# Altium integrated library TI Power Management Battery Management.IntLib: 949 symbols (part 17 of 62)
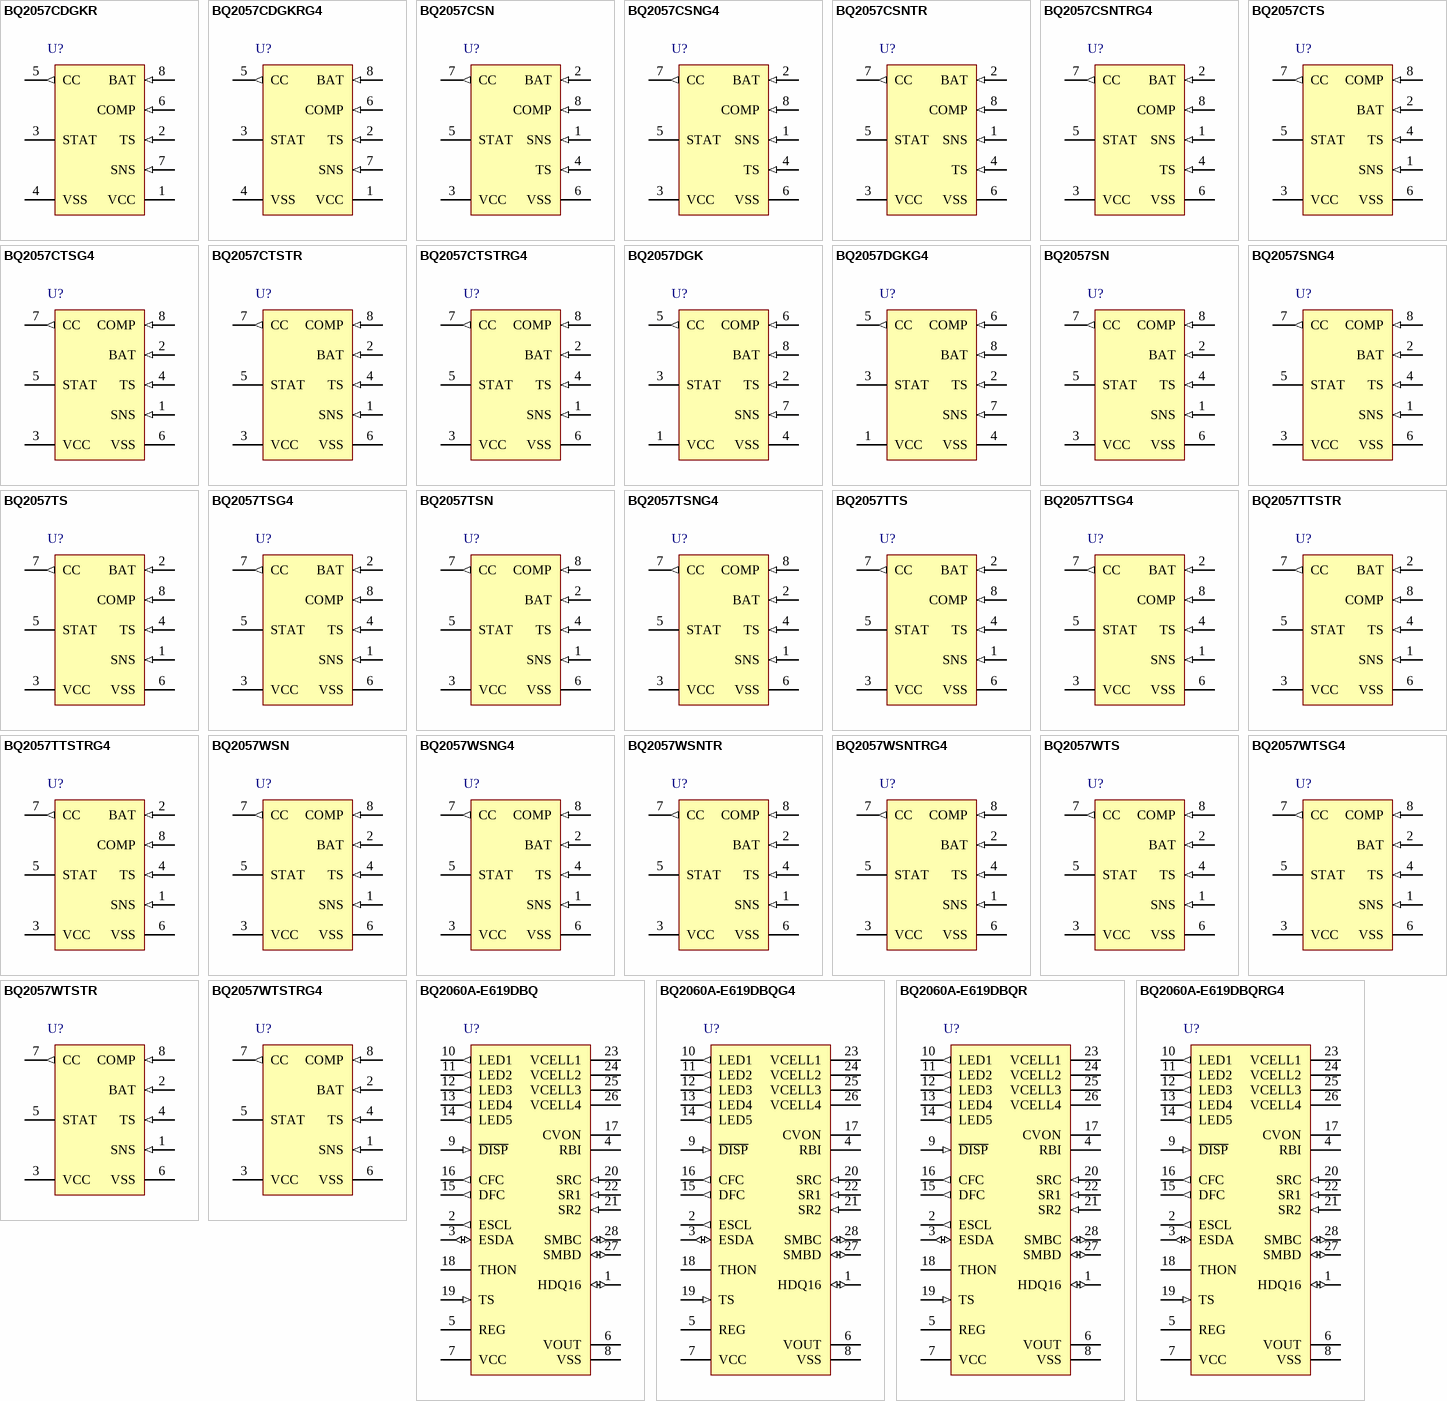
[diagram p50: symbols BQ2057CDGKR to BQ2060A-E619DBQRG4]

## BQ2060A-E619DBQG4
designator U?
Multi-Chemistry SBS 1.1 Compliant Gas Gauge with 5 LED Drivers, Additional Battery Mgmt Control, -20 to 70 degC, 28-pin SSOP (DBQ), Green (RoHS & no Sb/Br); PartNumber: BQ2060A-E619DBQG4; Manufacturer: Texas Instruments; Lead Acid: Y; Li-Polymer: N; SubFamily: Battery Fuel Gauge; DatasheetVersion: SLUS500D; PackageVersion: revH, Oct-2008; PackageReference: DBQ28; PackageDescription: 28-Pin Plastic Small Outline Package 0.635 mm Pitch; Supplier 1: Digi-Key; Supplier Part Number 1: BQ2060A-E619DBQG4-ND; Supplier 2: Farnell; Supplier Part Number 2: 1206833; Supplier 3: Newark; Supplier Part Number 3: 39P9770; Supplier 4: Newark; Supplier Part Number 4: 53K9227; Supplier 5: Mouser; Supplier Part Number 5: 595-BQ2060AE619DBQG4; Eco-Plan: Green (RoHS & no Sb/Br); Li-Ion: Y; NiCd: Y; NiMH: Y; Over Voltage Protection: N; Mounting Technology: Surface Mount; Code_JEDEC: MO-137-AF; ComponentLink1Description: Datasheet; ComponentLink1URL: http://www.ti.com/general/docs/lit/getliterature.tsp?genericPartNumber=BQ2060A&fileType=pdf
footprint DBQ28_N (SOP, 28-Leads, Body 9.9x3.9mm, Pitch 0.635mm, IPC Medium Density)
footprint DBQ28_L (SOP, 28-Leads, Body 9.9x3.9mm, Pitch 0.635mm, IPC High Density)
footprint DBQ28_M (SOP, 28-Leads, Body 9.9x3.9mm, Pitch 0.635mm, IPC Low Density)
pins: 1 HDQ16 (io) "Serial communication input/output. Open-drain bidirectional communications port", 2 ESCL (out) "Serial memory clock. Output to clock the data transfer between the bq2060A and the external nonvolatile configuration memory", 3 ESDA (io) "Serial memory data and address. Bidirectional pin used to transfer address and data to and from the bq2060A and the external nonvolatile configuration memory", 4 RBI (power) "Register backup input. Input that provides backup potential to the bq2060A registers during periods of low operating voltage.RBI accepts a storage capacitor or a battery input.", 5 REG (power) "Regulator output. Output to control an n-JFET for VCC regulation to the bq2060A from the battery potential", 6 VOUT (power) "EEPROM supply output. Output that supplies power to the external EEPROM configuration memory", 7 VCC (power) "Supply voltage input", 8 VSS (power) "Ground", 9 ~{DISP} (in) "Display control input. Input that controls the LED drivers LED1-LED5", 10 LED1 (out) "LED display segment output.Output that each may drive an external LED", 11 LED2 (out) "LED display segment output.Output that each may drive an external LED", 12 LED3 (out) "LED display segment output.Output that each may drive an external LED", 13 LED4 (out) "LED display segment output.Output that each may drive an external LED", 14 LED5 (out) "LED display segment output.Output that each may drive an external LED", 15 DFC (out) "Discharge FET control. Output to control the discharge FET in the Li-ion pack protection circuitry", 16 CFC (out) "Charge FET control output. Output to control the charge FET in the Li-ion pack protection circuitry", 17 CVON (hiz) "Cell voltage divider control output. Output control for external FETs to connect the cells to the external voltage dividers during cell voltage measurements", 18 THON (hiz) "Thermistor bias control. Output control for external FETs to connect the thermistor bias resistor during a temperature measurement", 19 TS (in) "Thermistor voltage input. Input connection for a thermistor to monitor temperature", 20 SRC (in) "Current sense input. Input to monitor instantaneous current", 21 SR2 (in) "Charge-flow sense resistor inputs. Input connections for a small value sense resistor to monitor the battery charge and discharge current flow", 22 SR1 (in) "Charge-flow sense resistor inputs. Input connections for a small value sense resistor to monitor the battery charge and discharge current flow", 23 VCELL1 (power) "Single-cell voltage input.Input that monitor the series element cell voltages", 24 VCELL2 (power) "Single-cell voltage input.Input that monitor the series element cell voltages", 25 VCELL3 (power) "Single-cell voltage input.Input that monitor the series element cell voltages", 26 VCELL4 (power) "Single-cell voltage input.Input that monitor the series element cell voltages", 27 SMBD (io) "SMBus data. Open-drain bidirectional pin used to transfer address and data to and from the bq2060A", 28 SMBC (io) "SMBus clock. Open-drain bidirectional pin used to clock the data transfer to and from the bq2060A"

## BQ2060A-E619DBQR
designator U?
Multi-Chemistry SBS 1.1 Compliant Gas Gauge with 5 LED Drivers, Additional Battery Mgmt Control, -20 to 70 degC, 28-pin SSOP (DBQ), Green (RoHS & no Sb/Br); PartNumber: BQ2060A-E619DBQR; Manufacturer: Texas Instruments; Lead Acid: Y; Li-Polymer: N; SubFamily: Battery Fuel Gauge; DatasheetVersion: SLUS500D; PackageVersion: revH, Oct-2008; PackageReference: DBQ28; PackageDescription: 28-Pin Plastic Small Outline Package 0.635 mm Pitch; Supplier 1: Digi-Key; Supplier Part Number 1: 296-25918-2-ND; Supplier 2: Digi-Key; Supplier Part Number 2: 296-25918-1-ND; Supplier 3: Digi-Key; Supplier Part Number 3: 296-25918-6-ND; Supplier 4: Newark; Supplier Part Number 4: 74C7605; Supplier 5: Mouser; Supplier Part Number 5: 595-BQ2060A-E619DBQR; Eco-Plan: Green (RoHS & no Sb/Br); Li-Ion: Y; NiCd: Y; NiMH: Y; Over Voltage Protection: N; Mounting Technology: Surface Mount; Code_JEDEC: MO-137-AF; ComponentLink1Description: Datasheet; ComponentLink1URL: http://www.ti.com/general/docs/lit/getliterature.tsp?genericPartNumber=BQ2060A&fileType=pdf
footprint DBQ28_N (SOP, 28-Leads, Body 9.9x3.9mm, Pitch 0.635mm, IPC Medium Density)
footprint DBQ28_L (SOP, 28-Leads, Body 9.9x3.9mm, Pitch 0.635mm, IPC High Density)
footprint DBQ28_M (SOP, 28-Leads, Body 9.9x3.9mm, Pitch 0.635mm, IPC Low Density)
pins: 1 HDQ16 (io) "Serial communication input/output. Open-drain bidirectional communications port", 2 ESCL (out) "Serial memory clock. Output to clock the data transfer between the bq2060A and the external nonvolatile configuration memory", 3 ESDA (io) "Serial memory data and address. Bidirectional pin used to transfer address and data to and from the bq2060A and the external nonvolatile configuration memory", 4 RBI (power) "Register backup input. Input that provides backup potential to the bq2060A registers during periods of low operating voltage.RBI accepts a storage capacitor or a battery input.", 5 REG (power) "Regulator output. Output to control an n-JFET for VCC regulation to the bq2060A from the battery potential", 6 VOUT (power) "EEPROM supply output. Output that supplies power to the external EEPROM configuration memory", 7 VCC (power) "Supply voltage input", 8 VSS (power) "Ground", 9 ~{DISP} (in) "Display control input. Input that controls the LED drivers LED1-LED5", 10 LED1 (out) "LED display segment output.Output that each may drive an external LED", 11 LED2 (out) "LED display segment output.Output that each may drive an external LED", 12 LED3 (out) "LED display segment output.Output that each may drive an external LED", 13 LED4 (out) "LED display segment output.Output that each may drive an external LED", 14 LED5 (out) "LED display segment output.Output that each may drive an external LED", 15 DFC (out) "Discharge FET control. Output to control the discharge FET in the Li-ion pack protection circuitry", 16 CFC (out) "Charge FET control output. Output to control the charge FET in the Li-ion pack protection circuitry", 17 CVON (hiz) "Cell voltage divider control output. Output control for external FETs to connect the cells to the external voltage dividers during cell voltage measurements", 18 THON (hiz) "Thermistor bias control. Output control for external FETs to connect the thermistor bias resistor during a temperature measurement", 19 TS (in) "Thermistor voltage input. Input connection for a thermistor to monitor temperature", 20 SRC (in) "Current sense input. Input to monitor instantaneous current", 21 SR2 (in) "Charge-flow sense resistor inputs. Input connections for a small value sense resistor to monitor the battery charge and discharge current flow", 22 SR1 (in) "Charge-flow sense resistor inputs. Input connections for a small value sense resistor to monitor the battery charge and discharge current flow", 23 VCELL1 (power) "Single-cell voltage input.Input that monitor the series element cell voltages", 24 VCELL2 (power) "Single-cell voltage input.Input that monitor the series element cell voltages", 25 VCELL3 (power) "Single-cell voltage input.Input that monitor the series element cell voltages", 26 VCELL4 (power) "Single-cell voltage input.Input that monitor the series element cell voltages", 27 SMBD (io) "SMBus data. Open-drain bidirectional pin used to transfer address and data to and from the bq2060A", 28 SMBC (io) "SMBus clock. Open-drain bidirectional pin used to clock the data transfer to and from the bq2060A"

## BQ2060A-E619DBQRG4
designator U?
Multi-Chemistry SBS 1.1 Compliant Gas Gauge with 5 LED Drivers, Additional Battery Mgmt Control, -20 to 70 degC, 28-pin SSOP (DBQ), Green (RoHS & no Sb/Br); PartNumber: BQ2060A-E619DBQRG4; Manufacturer: Texas Instruments; Lead Acid: Y; Li-Polymer: N; SubFamily: Battery Fuel Gauge; DatasheetVersion: SLUS500D; PackageVersion: revH, Oct-2008; PackageReference: DBQ28; PackageDescription: 28-Pin Plastic Small Outline Package 0.635 mm Pitch; Supplier 1: Digi-Key; Supplier Part Number 1: BQ2060A-E619DBQRG4-ND; Supplier 2: Newark; Supplier Part Number 2: 03K8980; Supplier 3: Mouser; Supplier Part Number 3: 595-BQ2060E619DBQRG4; Eco-Plan: Green (RoHS & no Sb/Br); Li-Ion: Y; NiCd: Y; NiMH: Y; Over Voltage Protection: N; Mounting Technology: Surface Mount; Code_JEDEC: MO-137-AF; ComponentLink1Description: Datasheet; ComponentLink1URL: http://www.ti.com/general/docs/lit/getliterature.tsp?genericPartNumber=BQ2060A&fileType=pdf
footprint DBQ28_N (SOP, 28-Leads, Body 9.9x3.9mm, Pitch 0.635mm, IPC Medium Density)
footprint DBQ28_L (SOP, 28-Leads, Body 9.9x3.9mm, Pitch 0.635mm, IPC High Density)
footprint DBQ28_M (SOP, 28-Leads, Body 9.9x3.9mm, Pitch 0.635mm, IPC Low Density)
pins: 1 HDQ16 (io) "Serial communication input/output. Open-drain bidirectional communications port", 2 ESCL (out) "Serial memory clock. Output to clock the data transfer between the bq2060A and the external nonvolatile configuration memory", 3 ESDA (io) "Serial memory data and address. Bidirectional pin used to transfer address and data to and from the bq2060A and the external nonvolatile configuration memory", 4 RBI (power) "Register backup input. Input that provides backup potential to the bq2060A registers during periods of low operating voltage.RBI accepts a storage capacitor or a battery input.", 5 REG (power) "Regulator output. Output to control an n-JFET for VCC regulation to the bq2060A from the battery potential", 6 VOUT (power) "EEPROM supply output. Output that supplies power to the external EEPROM configuration memory", 7 VCC (power) "Supply voltage input", 8 VSS (power) "Ground", 9 ~{DISP} (in) "Display control input. Input that controls the LED drivers LED1-LED5", 10 LED1 (out) "LED display segment output.Output that each may drive an external LED", 11 LED2 (out) "LED display segment output.Output that each may drive an external LED", 12 LED3 (out) "LED display segment output.Output that each may drive an external LED", 13 LED4 (out) "LED display segment output.Output that each may drive an external LED", 14 LED5 (out) "LED display segment output.Output that each may drive an external LED", 15 DFC (out) "Discharge FET control. Output to control the discharge FET in the Li-ion pack protection circuitry", 16 CFC (out) "Charge FET control output. Output to control the charge FET in the Li-ion pack protection circuitry", 17 CVON (hiz) "Cell voltage divider control output. Output control for external FETs to connect the cells to the external voltage dividers during cell voltage measurements", 18 THON (hiz) "Thermistor bias control. Output control for external FETs to connect the thermistor bias resistor during a temperature measurement", 19 TS (in) "Thermistor voltage input. Input connection for a thermistor to monitor temperature", 20 SRC (in) "Current sense input. Input to monitor instantaneous current", 21 SR2 (in) "Charge-flow sense resistor inputs. Input connections for a small value sense resistor to monitor the battery charge and discharge current flow", 22 SR1 (in) "Charge-flow sense resistor inputs. Input connections for a small value sense resistor to monitor the battery charge and discharge current flow", 23 VCELL1 (power) "Single-cell voltage input.Input that monitor the series element cell voltages", 24 VCELL2 (power) "Single-cell voltage input.Input that monitor the series element cell voltages", 25 VCELL3 (power) "Single-cell voltage input.Input that monitor the series element cell voltages", 26 VCELL4 (power) "Single-cell voltage input.Input that monitor the series element cell voltages", 27 SMBD (io) "SMBus data. Open-drain bidirectional pin used to transfer address and data to and from the bq2060A", 28 SMBC (io) "SMBus clock. Open-drain bidirectional pin used to clock the data transfer to and from the bq2060A"

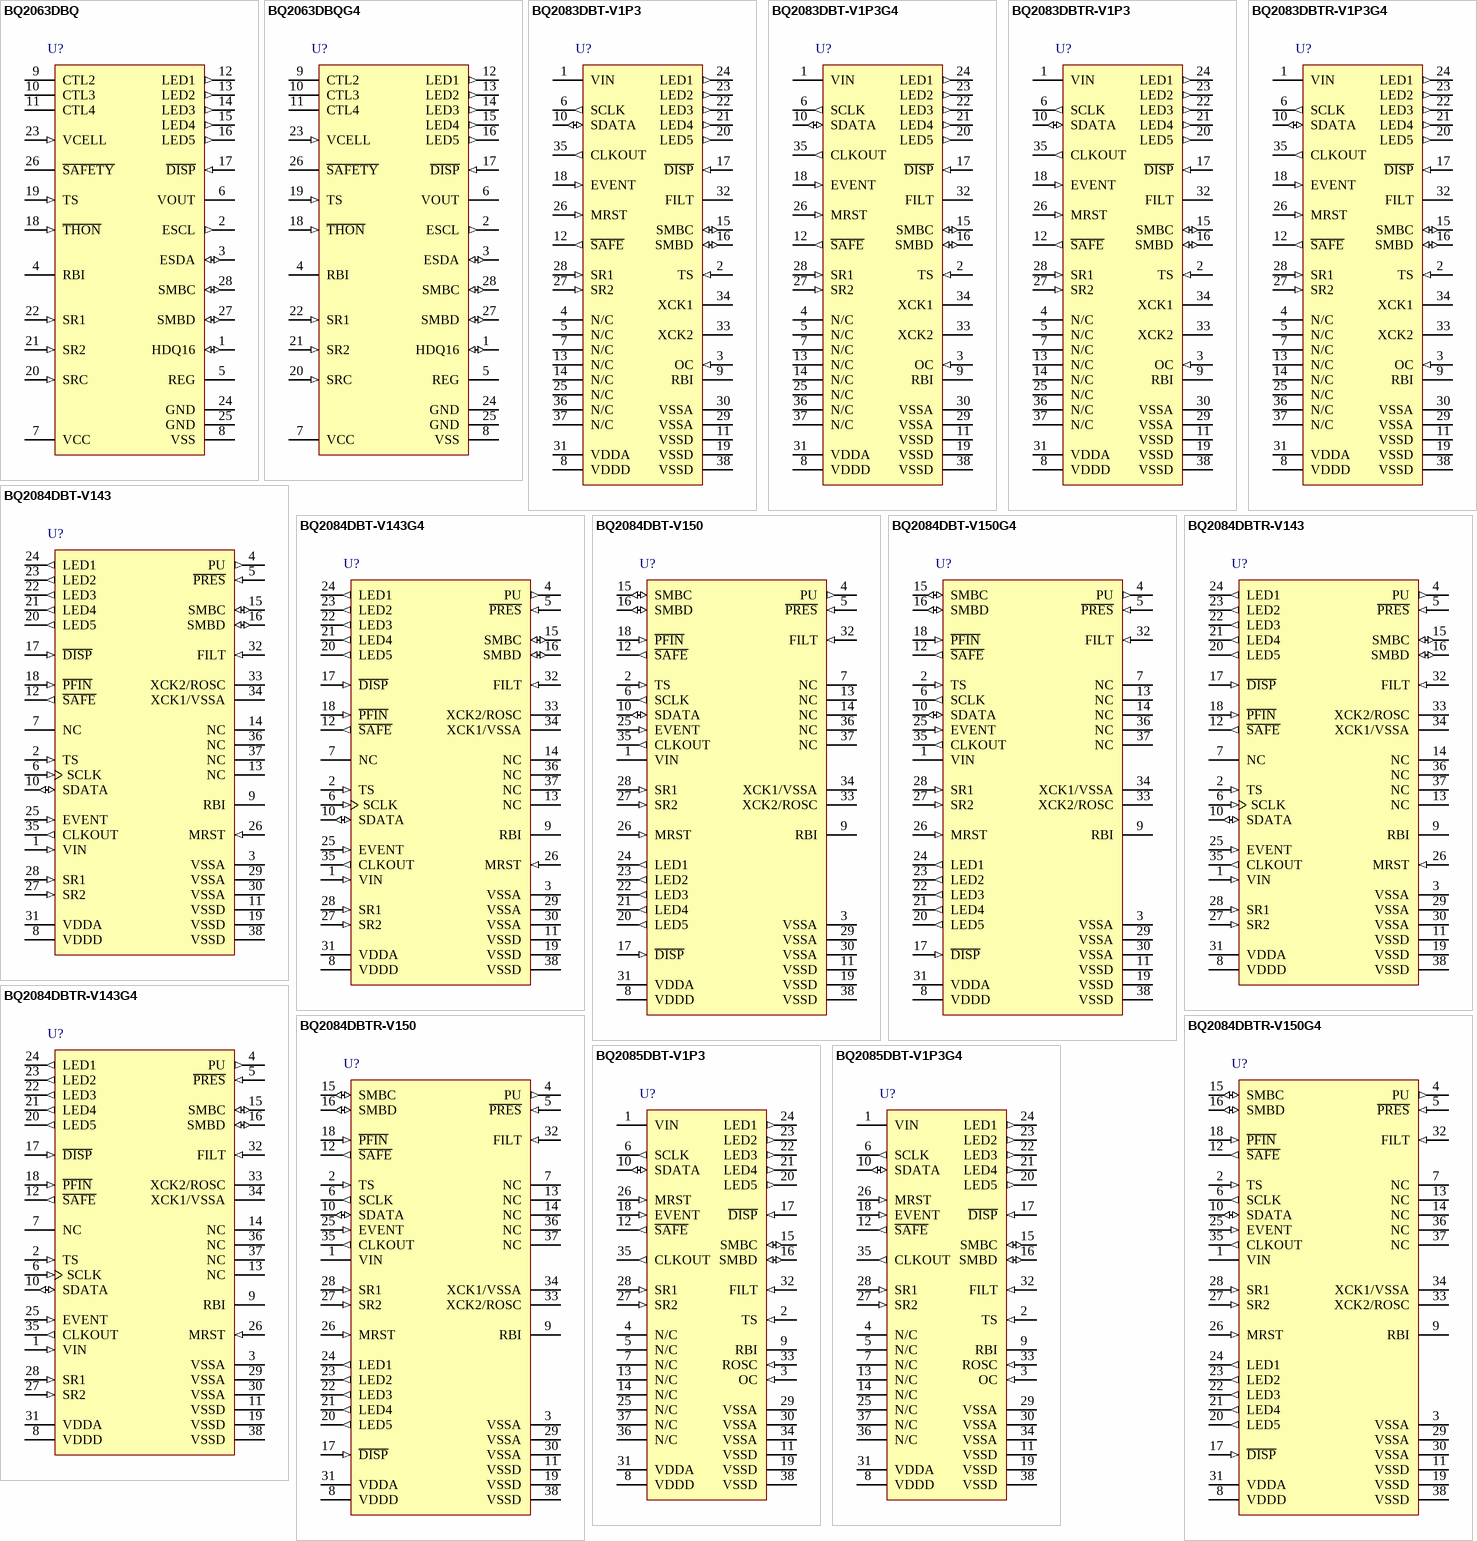
[diagram p9: symbols BQ2063DBQ to BQ2085DBT-V1P3G4]

## BQ2063DBQ
designator U?
Li-Ion SBS 1.1 Compliant Gas Gauge with Protector Interface, 0 to 70 degC, 28-pin SSOP/QSOP (DBQ), Green (RoHS & no Sb/Br); PartNumber: BQ2063DBQ; Manufacturer: Texas Instruments; Lead Acid: N; Li-Ion: Y; SubFamily: Battery Fuel Gauge; DatasheetVersion: SLUS468E; PackageVersion: revH, Oct-2008; PackageReference: DBQ28; PackageDescription: 28-Pin Plastic Small Outline Package 0.635 mm Pitch; Supplier 1: Digi-Key; Supplier Part Number 1: 296-12199-5-ND; Supplier 2: Newark; Supplier Part Number 2: 74C7612; Supplier 3: Mouser; Supplier Part Number 3: 595-BQ2063DBQ; Eco-Plan: Green (RoHS & no Sb/Br); Li-Polymer: N; NiCd: N; NiMH: N; Over Voltage Protection: N; Mounting Technology: Surface Mount; Code_JEDEC: MO-137-AF; ComponentLink1Description: Datasheet; ComponentLink1URL: http://www.ti.com/general/docs/lit/getliterature.tsp?genericPartNumber=BQ2063&fileType=pdf
footprint DBQ28_N (SOP, 28-Leads, Body 9.9x3.9mm, Pitch 0.635mm, IPC Medium Density)
footprint DBQ28_L (SOP, 28-Leads, Body 9.9x3.9mm, Pitch 0.635mm, IPC High Density)
footprint DBQ28_M (SOP, 28-Leads, Body 9.9x3.9mm, Pitch 0.635mm, IPC Low Density)
pins: 1 HDQ16 (io) "Serial communication open-drain bidirectional communications port", 2 ESCL (out) "Serial memory clock for data transfer between the bq2063 and the external nonvolatile configuration memory", 3 ESDA (io) "Bidirectional pin that transfers address and data to and from the bq2063 and the external nonvolatile configuration memory", 4 RBI (power) "Register backup that provides backup potential to the bq2063 registers during periods of low operating voltage. RBI accepts a storage capacitor or a battery input", 5 REG (power) "Regular output to control an n-JFET for Vcc regulation to the bq2063 from the battery potential", 6 VOUT (power) "VCC output that supplies power to the external EEPROM configuration memory", 7 VCC (power) "Supply voltage", 8 VSS (power) "Ground", 9 CTL2 (hiz) "3-state outputs to interface the S-8243 protection IC", 10 CTL3 (hiz) "3-state outputs to interface the S-8243 protection IC", 11 CTL4 (hiz) "3-state outputs to interface the S-8243 protection IC", 12 LED1 (out) "LED display segments that each may drive an external LED", 13 LED2 (out) "LED display segments that each may drive an external LED", 14 LED3 (out) "LED display segments that each may drive an external LED", 15 LED4 (out) "LED display segments that each may drive an external LED", 16 LED5 (out) "LED display segments that each may drive an external LED", 17 ~{DISP} (in) "Display control for the LED drivers LED1-LED5", 18 ~{THON} (in) "Control for external FETs to connect the thermistor bias resistor during a temperature measurement", 19 TS (in) "Thermistor voltage input connection to monitor temperature", 20 SRC (in) "Current-sense voltage to monitor instantaneous current", 21 SR2 (in) "Connections for a small-value sense resistor to monitor the battery charge- and discharge-current flow", 22 SR1 (in) "Connections for a small-value sense resistor to monitor the battery charge- and discharge-current flow", 23 VCELL (in) "Single-cell voltage input that monitors the series element cell voltages from the S-8243", 24 GND (power) "Must be tied externally to VSS", 25 GND (power) "Must be tied externally to VSS", 26 ~{SAFETY} (oc) "Open-drain output for an additional level of safety protection (e.g., fuse blow)", 27 SMBD (io) "SMBus data open-drain bidirectional pin used to transfer address and data to and from the bq2063", 28 SMBC (io) "SMBus clock open-drain bidirectional pin used to clock the data transfer to and from the bq2063"

## BQ2063DBQG4
designator U?
Li-Ion SBS 1.1 Compliant Gas Gauge with Protector Interface, 0 to 70 degC, 28-pin SSOP/QSOP (DBQ), Green (RoHS & no Sb/Br); PartNumber: BQ2063DBQG4; Manufacturer: Texas Instruments; Lead Acid: N; Li-Ion: Y; SubFamily: Battery Fuel Gauge; DatasheetVersion: SLUS468E; PackageVersion: revH, Oct-2008; PackageReference: DBQ28; PackageDescription: 28-Pin Plastic Small Outline Package 0.635 mm Pitch; Supplier 1: Digi-Key; Supplier Part Number 1: BQ2063DBQG4-ND; Supplier 2: Newark; Supplier Part Number 2: 99K1806; Supplier 3: Mouser; Supplier Part Number 3: 595-BQ2063DBQG4; Eco-Plan: Green (RoHS & no Sb/Br); Li-Polymer: N; NiCd: N; NiMH: N; Over Voltage Protection: N; Mounting Technology: Surface Mount; Code_JEDEC: MO-137-AF; ComponentLink1Description: Datasheet; ComponentLink1URL: http://www.ti.com/general/docs/lit/getliterature.tsp?genericPartNumber=BQ2063&fileType=pdf
footprint DBQ28_N (SOP, 28-Leads, Body 9.9x3.9mm, Pitch 0.635mm, IPC Medium Density)
footprint DBQ28_L (SOP, 28-Leads, Body 9.9x3.9mm, Pitch 0.635mm, IPC High Density)
footprint DBQ28_M (SOP, 28-Leads, Body 9.9x3.9mm, Pitch 0.635mm, IPC Low Density)
pins: 1 HDQ16 (io) "Serial communication open-drain bidirectional communications port", 2 ESCL (out) "Serial memory clock for data transfer between the bq2063 and the external nonvolatile configuration memory", 3 ESDA (io) "Bidirectional pin that transfers address and data to and from the bq2063 and the external nonvolatile configuration memory", 4 RBI (power) "Register backup that provides backup potential to the bq2063 registers during periods of low operating voltage. RBI accepts a storage capacitor or a battery input", 5 REG (power) "Regular output to control an n-JFET for Vcc regulation to the bq2063 from the battery potential", 6 VOUT (power) "VCC output that supplies power to the external EEPROM configuration memory", 7 VCC (power) "Supply voltage", 8 VSS (power) "Ground", 9 CTL2 (hiz) "3-state outputs to interface the S-8243 protection IC", 10 CTL3 (hiz) "3-state outputs to interface the S-8243 protection IC", 11 CTL4 (hiz) "3-state outputs to interface the S-8243 protection IC", 12 LED1 (out) "LED display segments that each may drive an external LED", 13 LED2 (out) "LED display segments that each may drive an external LED", 14 LED3 (out) "LED display segments that each may drive an external LED", 15 LED4 (out) "LED display segments that each may drive an external LED", 16 LED5 (out) "LED display segments that each may drive an external LED", 17 ~{DISP} (in) "Display control for the LED drivers LED1-LED5", 18 ~{THON} (in) "Control for external FETs to connect the thermistor bias resistor during a temperature measurement", 19 TS (in) "Thermistor voltage input connection to monitor temperature", 20 SRC (in) "Current-sense voltage to monitor instantaneous current", 21 SR2 (in) "Connections for a small-value sense resistor to monitor the battery charge- and discharge-current flow", 22 SR1 (in) "Connections for a small-value sense resistor to monitor the battery charge- and discharge-current flow", 23 VCELL (in) "Single-cell voltage input that monitors the series element cell voltages from the S-8243", 24 GND (power) "Must be tied externally to VSS", 25 GND (power) "Must be tied externally to VSS", 26 ~{SAFETY} (oc) "Open-drain output for an additional level of safety protection (e.g., fuse blow)", 27 SMBD (io) "SMBus data open-drain bidirectional pin used to transfer address and data to and from the bq2063", 28 SMBC (io) "SMBus clock open-drain bidirectional pin used to clock the data transfer to and from the bq2063"

## BQ2083DBT-V1P3
designator U?
SBS-Compliant Gas Gauge for Use with bq29311, -20 to 85 degC, 38-pin TSSOP (DBT), Green (RoHS & no Sb/Br); PartNumber: BQ2083DBT-V1P3; Manufacturer: Texas Instruments; Lead Acid: N; SubFamily: Battery Fuel Gauge; DatasheetVersion: SLVS508; PackageVersion: revI, Mar-2011; PackageReference: DBT38; PackageDescription: 38-Pin Plastic Small Outline 0.5 mm Pitch; Supplier 1: Digi-Key; Supplier Part Number 1: 296-17237-ND; Supplier 2: Newark; Supplier Part Number 2: 10J9012; Supplier 3: Mouser; Supplier Part Number 3: 595-BQ2083DBT-V1P3; Eco-Plan: Green (RoHS & no Sb/Br); Li-Ion: N; Li-Polymer: N; NiCd: N; NiMH: N; Over Voltage Protection: N; Mounting Technology: Surface Mount; Code_JEDEC: MO-153; ComponentLink1Description: Datasheet; ComponentLink1URL: http://www.ti.com/general/docs/lit/getliterature.tsp?genericPartNumber=BQ2083-V1P3&fileType=pdf
footprint DBT38_N (TSSOP, 38-Leads, Body 9.7x4.4mm, Pitch 0.5mm, IPC Medium Density)
footprint DBT38_L (TSSOP, 38-Leads, Body 9.7x4.4mm, Pitch 0.5mm, IPC High Density)
footprint DBT38_M (TSSOP, 38-Leads, Body 9.7x4.4mm, Pitch 0.5mm, IPC Low Density)
pins: 1 VIN (power) "Single cell voltage input from the bq29311", 2 TS (in) "Thermistor voltage input connection to monitor temperature", 3 OC (in) "Analog input for auto ADC offset compensation; should be connected to VSSA", 4 N/C "No connection", 5 N/C "No connection", 6 SCLK (out) "Communication clock to the bq29311", 7 N/C "No connection", 8 VDDD (power) "Positive supply for digital circuitry and I/O pins", 9 RBI (power) "Register backup that provides backup potential to the bq2083-V1P3 data registers during periods of low operating voltage. RBI accepts a storage capacitor or a battery input.", 10 SDATA (io) "Data transfer to and from bq29311", 11 VSSD (power) "Negative supply for digital circuitry", 12 ~{SAFE} (out) "Output for additional level of safety protection; e.g., fuse blow.", 13 N/C "No connection", 14 N/C "No connection", 15 SMBC (io) "SMBus clock open-drain bidirectional pin used to clock the data transfer to and from the bq2083-V1P3", 16 SMBD (io) "SMBus data open-drain bidirectional pin used to transfer address and data to and from the bq2083-V1P3", 17 ~{DISP} (in) "Display control for the LED drivers LED1 through LED5", 18 EVENT (in) "Input from bq29311 XALERT output", 19 VSSD (power) "Negative supply for digital circuitry", 20 LED5 (out) "LED display segments that each may drive an external LED", 21 LED4 (out) "LED display segments that each may drive an external LED", 22 LED3 (out) "LED display segments that each may drive an external LED", 23 LED2 (out) "LED display segments that each may drive an external LED", 24 LED1 (out) "LED display segments that each may drive an external LED", 25 N/C "No connection", 26 MRST (in) "Master reset input that forces the device into reset when held high", 27 SR2 (in) "Connections for a small-value sense resistor to monitor the battery charge- and discharge-current flow", 28 SR1 (in) "Connections for a small-value sense resistor to monitor the battery charge- and discharge-current flow", 29 VSSA (power) "Negative supply for analog circuitry", 30 VSSA (power) "Negative supply for analog circuitry", 31 VDDA (power) "Positive supply for analog circuitry", 32 FILT "Analog input connected to the external PLL filter", 33 XCK2 "32.768 kHz crystal oscillator output pin", 34 XCK1 "32.768 kHz crystal oscillator input pin", 35 CLKOUT (out) "32.768-kHz output to the bq29311", 36 N/C "No connection", 37 N/C "No connection", 38 VSSD (power) "Negative supply for digital circuitry"

## BQ2083DBT-V1P3G4
designator U?
SBS-Compliant Gas Gauge for Use with bq29311, -20 to 85 degC, 38-pin TSSOP (DBT), Green (RoHS & no Sb/Br); PartNumber: BQ2083DBT-V1P3G4; Manufacturer: Texas Instruments; Lead Acid: N; SubFamily: Battery Fuel Gauge; DatasheetVersion: SLVS508; PackageVersion: revI, Mar-2011; PackageReference: DBT38; PackageDescription: 38-Pin Plastic Small Outline 0.5 mm Pitch; Supplier 1: Digi-Key; Supplier Part Number 1: BQ2083DBT-V1P3G4-ND; Supplier 2: Newark; Supplier Part Number 2: 67K7899; Supplier 3: Mouser; Supplier Part Number 3: 595-BQ2083DBT-V1P3G4; Eco-Plan: Green (RoHS & no Sb/Br); Li-Ion: N; Li-Polymer: N; NiCd: N; NiMH: N; Over Voltage Protection: N; Mounting Technology: Surface Mount; Code_JEDEC: MO-153; ComponentLink1Description: Datasheet; ComponentLink1URL: http://www.ti.com/general/docs/lit/getliterature.tsp?genericPartNumber=BQ2083-V1P3&fileType=pdf
footprint DBT38_N (TSSOP, 38-Leads, Body 9.7x4.4mm, Pitch 0.5mm, IPC Medium Density)
footprint DBT38_L (TSSOP, 38-Leads, Body 9.7x4.4mm, Pitch 0.5mm, IPC High Density)
footprint DBT38_M (TSSOP, 38-Leads, Body 9.7x4.4mm, Pitch 0.5mm, IPC Low Density)
pins: 1 VIN (power) "Single cell voltage input from the bq29311", 2 TS (in) "Thermistor voltage input connection to monitor temperature", 3 OC (in) "Analog input for auto ADC offset compensation; should be connected to VSSA", 4 N/C "No connection", 5 N/C "No connection", 6 SCLK (out) "Communication clock to the bq29311", 7 N/C "No connection", 8 VDDD (power) "Positive supply for digital circuitry and I/O pins", 9 RBI (power) "Register backup that provides backup potential to the bq2083-V1P3 data registers during periods of low operating voltage. RBI accepts a storage capacitor or a battery input.", 10 SDATA (io) "Data transfer to and from bq29311", 11 VSSD (power) "Negative supply for digital circuitry", 12 ~{SAFE} (out) "Output for additional level of safety protection; e.g., fuse blow.", 13 N/C "No connection", 14 N/C "No connection", 15 SMBC (io) "SMBus clock open-drain bidirectional pin used to clock the data transfer to and from the bq2083-V1P3", 16 SMBD (io) "SMBus data open-drain bidirectional pin used to transfer address and data to and from the bq2083-V1P3", 17 ~{DISP} (in) "Display control for the LED drivers LED1 through LED5", 18 EVENT (in) "Input from bq29311 XALERT output", 19 VSSD (power) "Negative supply for digital circuitry", 20 LED5 (out) "LED display segments that each may drive an external LED", 21 LED4 (out) "LED display segments that each may drive an external LED", 22 LED3 (out) "LED display segments that each may drive an external LED", 23 LED2 (out) "LED display segments that each may drive an external LED", 24 LED1 (out) "LED display segments that each may drive an external LED", 25 N/C "No connection", 26 MRST (in) "Master reset input that forces the device into reset when held high", 27 SR2 (in) "Connections for a small-value sense resistor to monitor the battery charge- and discharge-current flow", 28 SR1 (in) "Connections for a small-value sense resistor to monitor the battery charge- and discharge-current flow", 29 VSSA (power) "Negative supply for analog circuitry", 30 VSSA (power) "Negative supply for analog circuitry", 31 VDDA (power) "Positive supply for analog circuitry", 32 FILT "Analog input connected to the external PLL filter", 33 XCK2 "32.768 kHz crystal oscillator output pin", 34 XCK1 "32.768 kHz crystal oscillator input pin", 35 CLKOUT (out) "32.768-kHz output to the bq29311", 36 N/C "No connection", 37 N/C "No connection", 38 VSSD (power) "Negative supply for digital circuitry"

## BQ2083DBTR-V1P3
designator U?
SBS-Compliant Gas Gauge for Use with bq29311, -20 to 85 degC, 38-pin TSSOP (DBT), Green (RoHS & no Sb/Br); PartNumber: BQ2083DBTR-V1P3; Manufacturer: Texas Instruments; Lead Acid: N; SubFamily: Battery Fuel Gauge; DatasheetVersion: SLVS508; PackageVersion: revI, Mar-2011; PackageReference: DBT38; PackageDescription: 38-Pin Plastic Small Outline 0.5 mm Pitch; Supplier 1: Digi-Key; Supplier Part Number 1: BQ2083DBTR-V1P3-ND; Supplier 2: Newark; Supplier Part Number 2: 10J9013; Supplier 3: Mouser; Supplier Part Number 3: 595-BQ2083DBTR-V1P3; Eco-Plan: Green (RoHS & no Sb/Br); Li-Ion: N; Li-Polymer: N; NiCd: N; NiMH: N; Over Voltage Protection: N; Mounting Technology: Surface Mount; Code_JEDEC: MO-153; ComponentLink1Description: Datasheet; ComponentLink1URL: http://www.ti.com/general/docs/lit/getliterature.tsp?genericPartNumber=BQ2083-V1P3&fileType=pdf
footprint DBT38_N (TSSOP, 38-Leads, Body 9.7x4.4mm, Pitch 0.5mm, IPC Medium Density)
footprint DBT38_L (TSSOP, 38-Leads, Body 9.7x4.4mm, Pitch 0.5mm, IPC High Density)
footprint DBT38_M (TSSOP, 38-Leads, Body 9.7x4.4mm, Pitch 0.5mm, IPC Low Density)
pins: 1 VIN (power) "Single cell voltage input from the bq29311", 2 TS (in) "Thermistor voltage input connection to monitor temperature", 3 OC (in) "Analog input for auto ADC offset compensation; should be connected to VSSA", 4 N/C "No connection", 5 N/C "No connection", 6 SCLK (out) "Communication clock to the bq29311", 7 N/C "No connection", 8 VDDD (power) "Positive supply for digital circuitry and I/O pins", 9 RBI (power) "Register backup that provides backup potential to the bq2083-V1P3 data registers during periods of low operating voltage. RBI accepts a storage capacitor or a battery input.", 10 SDATA (io) "Data transfer to and from bq29311", 11 VSSD (power) "Negative supply for digital circuitry", 12 ~{SAFE} (out) "Output for additional level of safety protection; e.g., fuse blow.", 13 N/C "No connection", 14 N/C "No connection", 15 SMBC (io) "SMBus clock open-drain bidirectional pin used to clock the data transfer to and from the bq2083-V1P3", 16 SMBD (io) "SMBus data open-drain bidirectional pin used to transfer address and data to and from the bq2083-V1P3", 17 ~{DISP} (in) "Display control for the LED drivers LED1 through LED5", 18 EVENT (in) "Input from bq29311 XALERT output", 19 VSSD (power) "Negative supply for digital circuitry", 20 LED5 (out) "LED display segments that each may drive an external LED", 21 LED4 (out) "LED display segments that each may drive an external LED", 22 LED3 (out) "LED display segments that each may drive an external LED", 23 LED2 (out) "LED display segments that each may drive an external LED", 24 LED1 (out) "LED display segments that each may drive an external LED", 25 N/C "No connection", 26 MRST (in) "Master reset input that forces the device into reset when held high", 27 SR2 (in) "Connections for a small-value sense resistor to monitor the battery charge- and discharge-current flow", 28 SR1 (in) "Connections for a small-value sense resistor to monitor the battery charge- and discharge-current flow", 29 VSSA (power) "Negative supply for analog circuitry", 30 VSSA (power) "Negative supply for analog circuitry", 31 VDDA (power) "Positive supply for analog circuitry", 32 FILT "Analog input connected to the external PLL filter", 33 XCK2 "32.768 kHz crystal oscillator output pin", 34 XCK1 "32.768 kHz crystal oscillator input pin", 35 CLKOUT (out) "32.768-kHz output to the bq29311", 36 N/C "No connection", 37 N/C "No connection", 38 VSSD (power) "Negative supply for digital circuitry"

## BQ2083DBTR-V1P3G4
designator U?
SBS-Compliant Gas Gauge for Use with bq29311, -20 to 85 degC, 38-pin TSSOP (DBT), Green (RoHS & no Sb/Br); PartNumber: BQ2083DBTR-V1P3G4; Manufacturer: Texas Instruments; Lead Acid: N; SubFamily: Battery Fuel Gauge; DatasheetVersion: SLVS508; PackageVersion: revI, Mar-2011; PackageReference: DBT38; PackageDescription: 38-Pin Plastic Small Outline 0.5 mm Pitch; Supplier 1: Digi-Key; Supplier Part Number 1: BQ2083DBTR-V1P3G4-ND; Supplier 2: Newark; Supplier Part Number 2: 53K9231; Supplier 3: Mouser; Supplier Part Number 3: 595-BQ2083DBTRV1P3G4; Eco-Plan: Green (RoHS & no Sb/Br); Li-Ion: N; Li-Polymer: N; NiCd: N; NiMH: N; Over Voltage Protection: N; Mounting Technology: Surface Mount; Code_JEDEC: MO-153; ComponentLink1Description: Datasheet; ComponentLink1URL: http://www.ti.com/general/docs/lit/getliterature.tsp?genericPartNumber=BQ2083-V1P3&fileType=pdf
footprint DBT38_N (TSSOP, 38-Leads, Body 9.7x4.4mm, Pitch 0.5mm, IPC Medium Density)
footprint DBT38_L (TSSOP, 38-Leads, Body 9.7x4.4mm, Pitch 0.5mm, IPC High Density)
footprint DBT38_M (TSSOP, 38-Leads, Body 9.7x4.4mm, Pitch 0.5mm, IPC Low Density)
pins: 1 VIN (power) "Single cell voltage input from the bq29311", 2 TS (in) "Thermistor voltage input connection to monitor temperature", 3 OC (in) "Analog input for auto ADC offset compensation; should be connected to VSSA", 4 N/C "No connection", 5 N/C "No connection", 6 SCLK (out) "Communication clock to the bq29311", 7 N/C "No connection", 8 VDDD (power) "Positive supply for digital circuitry and I/O pins", 9 RBI (power) "Register backup that provides backup potential to the bq2083-V1P3 data registers during periods of low operating voltage. RBI accepts a storage capacitor or a battery input.", 10 SDATA (io) "Data transfer to and from bq29311", 11 VSSD (power) "Negative supply for digital circuitry", 12 ~{SAFE} (out) "Output for additional level of safety protection; e.g., fuse blow.", 13 N/C "No connection", 14 N/C "No connection", 15 SMBC (io) "SMBus clock open-drain bidirectional pin used to clock the data transfer to and from the bq2083-V1P3", 16 SMBD (io) "SMBus data open-drain bidirectional pin used to transfer address and data to and from the bq2083-V1P3", 17 ~{DISP} (in) "Display control for the LED drivers LED1 through LED5", 18 EVENT (in) "Input from bq29311 XALERT output", 19 VSSD (power) "Negative supply for digital circuitry", 20 LED5 (out) "LED display segments that each may drive an external LED", 21 LED4 (out) "LED display segments that each may drive an external LED", 22 LED3 (out) "LED display segments that each may drive an external LED", 23 LED2 (out) "LED display segments that each may drive an external LED", 24 LED1 (out) "LED display segments that each may drive an external LED", 25 N/C "No connection", 26 MRST (in) "Master reset input that forces the device into reset when held high", 27 SR2 (in) "Connections for a small-value sense resistor to monitor the battery charge- and discharge-current flow", 28 SR1 (in) "Connections for a small-value sense resistor to monitor the battery charge- and discharge-current flow", 29 VSSA (power) "Negative supply for analog circuitry", 30 VSSA (power) "Negative supply for analog circuitry", 31 VDDA (power) "Positive supply for analog circuitry", 32 FILT "Analog input connected to the external PLL filter", 33 XCK2 "32.768 kHz crystal oscillator output pin", 34 XCK1 "32.768 kHz crystal oscillator input pin", 35 CLKOUT (out) "32.768-kHz output to the bq29311", 36 N/C "No connection", 37 N/C "No connection", 38 VSSD (power) "Negative supply for digital circuitry"

## BQ2084DBT-V143
designator U?
SBS v1.1 Compliant Gas Gauge for use with the BQ29312A, 38-pin TSSOP (DBT), Green (RoHS & no Sb/Br); PartNumber: BQ2084DBT-V143; Manufacturer: Texas Instruments; Lead Acid: N; Li-Ion: Y; SubFamily: Battery Fuel Gauge; DatasheetVersion: SLUS732; PackageVersion: revI, Mar-2011; PackageReference: DBT38; PackageDescription: 38-Pin Plastic Small Outline 0.5 mm Pitch; Supplier 1: Digi-Key; Supplier Part Number 1: 296-32833-5-ND; Supplier 2: Farnell; Supplier Part Number 2: 1647882; Supplier 3: Newark; Supplier Part Number 3: 21M9446; Supplier 4: Mouser; Supplier Part Number 4: 595-BQ2084DBT-V143; Eco-Plan: Green (RoHS & no Sb/Br); Li-Polymer: N; NiCd: N; NiMH: N; Over Voltage Protection: N; Mounting Technology: Surface Mount; Code_JEDEC: MO-153; ComponentLink1Description: Datasheet; ComponentLink1URL: http://www.ti.com/general/docs/lit/getliterature.tsp?genericPartNumber=BQ2084-V143&fileType=pdf
footprint DBT38_N (TSSOP, 38-Leads, Body 9.7x4.4mm, Pitch 0.5mm, IPC Medium Density)
footprint DBT38_L (TSSOP, 38-Leads, Body 9.7x4.4mm, Pitch 0.5mm, IPC High Density)
footprint DBT38_M (TSSOP, 38-Leads, Body 9.7x4.4mm, Pitch 0.5mm, IPC Low Density)
pins: 1 VIN (in) "Single-cell voltage input from the bq29312.", 2 TS (in) "Thermistor voltage input connection to monitor temperature.", 3 VSSA (power) "Negative supply for analog circuitry.", 4 PU (out) "Output to pull up the P\R\E\S\ pin for detection.", 5 ~{PRES} (in) "Active low input to sense system insertion.", 6 SCLK (in) "Communication clock to the bq29312.", 7 NC "No connection.", 8 VDDD (power) "Positive supply for digital circuitry and I/O pins.", 9 RBI (power) "Register backup that provides backup potential to the bq2084-V143 data registers during periods of low operating voltage. RBI accepts a storage capacitor or a battery input.", 10 SDATA (io) "Data transfer to and from bq29312.", 11 VSSD (power) "Negative supply for digital circuitry.", 12 ~{SAFE} (out) "Active low output for additional level of safety protection; e.g., fuse blow.", 13 NC "No connection.", 14 NC "No connection.", 15 SMBC (io) "SMBus clock open-drain bidirectional pin used to clock the data transfer to and from the bq2084-V143.", 16 SMBD (io) "SMBus data open-drain bidirectional pin used to transfer address and data to and from the bq2084-V143.", 17 ~{DISP} (in) "Display control for the LED drivers LED1 through LED5.", 18 ~{PFIN} (in) "Active low input to detect secondary protector output status.", 19 VSSD (power) "Negative supply for digital circuitry.", 20 LED5 (out) "LED display segments that each may drive an external LED.", 21 LED4 (out) "LED display segments that each may drive an external LED.", 22 LED3 (out) "LED display segments that each may drive an external LED.", 23 LED2 (out) "LED display segments that each may drive an external LED.", 24 LED1 (out) "LED display segments that each may drive an external LED.", 25 EVENT (in) "Input from bq29312 XALERT output.", 26 MRST (in) "Master reset input that forces the device into reset when held high.", 27 SR2 (in) "Connections for a small-value sense resistor to monitor the battery charge- and discharge-current flow.", 28 SR1 (in) "Connections for a small-value sense resistor to monitor the battery charge- and discharge-current flow.", 29 VSSA (power) "Negative supply for analog circuitry.", 30 VSSA (power) "Negative supply for analog circuitry.", 31 VDDA (power) "Positive supply for analog circuitry.", 32 FILT (in) "Analog input connected to the external PLL filter.", 33 XCK2/ROSC "32.768-kHz crystal oscillator output pin or connected to a 100-k ohm, 50 ppm or better resistor if the internal oscillator is used.", 34 XCK1/VSSA "32.768-kHz crystal oscillator input pin or connected to VSSA if the internal oscillator is used.", 35 CLKOUT (out) "32.768-kHz output to the bq29312.", 36 NC "No connection.", 37 NC "No connection.", 38 VSSD (power) "Negative supply for digital circuitry."

## BQ2084DBT-V143G4
designator U?
SBS v1.1 Compliant Gas Gauge for use with the BQ29312A, 38-pin TSSOP (DBT), Green (RoHS & no Sb/Br); PartNumber: BQ2084DBT-V143G4; Manufacturer: Texas Instruments; Lead Acid: N; Li-Ion: Y; SubFamily: Battery Fuel Gauge; DatasheetVersion: SLUS732; PackageVersion: revI, Mar-2011; PackageReference: DBT38; PackageDescription: 38-Pin Plastic Small Outline 0.5 mm Pitch; Supplier 1: Digi-Key; Supplier Part Number 1: BQ2084DBT-V143G4-ND; Supplier 2: Newark; Supplier Part Number 2: 27M2177; Supplier 3: Mouser; Supplier Part Number 3: 595-BQ2084DBT-V143G4; Eco-Plan: Green (RoHS & no Sb/Br); Li-Polymer: N; NiCd: N; NiMH: N; Over Voltage Protection: N; Mounting Technology: Surface Mount; Code_JEDEC: MO-153; ComponentLink1Description: Datasheet; ComponentLink1URL: http://www.ti.com/general/docs/lit/getliterature.tsp?genericPartNumber=BQ2084-V143&fileType=pdf
footprint DBT38_N (TSSOP, 38-Leads, Body 9.7x4.4mm, Pitch 0.5mm, IPC Medium Density)
footprint DBT38_L (TSSOP, 38-Leads, Body 9.7x4.4mm, Pitch 0.5mm, IPC High Density)
footprint DBT38_M (TSSOP, 38-Leads, Body 9.7x4.4mm, Pitch 0.5mm, IPC Low Density)
pins: 1 VIN (in) "Single-cell voltage input from the bq29312.", 2 TS (in) "Thermistor voltage input connection to monitor temperature.", 3 VSSA (power) "Negative supply for analog circuitry.", 4 PU (out) "Output to pull up the P\R\E\S\ pin for detection.", 5 ~{PRES} (in) "Active low input to sense system insertion.", 6 SCLK (in) "Communication clock to the bq29312.", 7 NC "No connection.", 8 VDDD (power) "Positive supply for digital circuitry and I/O pins.", 9 RBI (power) "Register backup that provides backup potential to the bq2084-V143 data registers during periods of low operating voltage. RBI accepts a storage capacitor or a battery input.", 10 SDATA (io) "Data transfer to and from bq29312.", 11 VSSD (power) "Negative supply for digital circuitry.", 12 ~{SAFE} (out) "Active low output for additional level of safety protection; e.g., fuse blow.", 13 NC "No connection.", 14 NC "No connection.", 15 SMBC (io) "SMBus clock open-drain bidirectional pin used to clock the data transfer to and from the bq2084-V143.", 16 SMBD (io) "SMBus data open-drain bidirectional pin used to transfer address and data to and from the bq2084-V143.", 17 ~{DISP} (in) "Display control for the LED drivers LED1 through LED5.", 18 ~{PFIN} (in) "Active low input to detect secondary protector output status.", 19 VSSD (power) "Negative supply for digital circuitry.", 20 LED5 (out) "LED display segments that each may drive an external LED.", 21 LED4 (out) "LED display segments that each may drive an external LED.", 22 LED3 (out) "LED display segments that each may drive an external LED.", 23 LED2 (out) "LED display segments that each may drive an external LED.", 24 LED1 (out) "LED display segments that each may drive an external LED.", 25 EVENT (in) "Input from bq29312 XALERT output.", 26 MRST (in) "Master reset input that forces the device into reset when held high.", 27 SR2 (in) "Connections for a small-value sense resistor to monitor the battery charge- and discharge-current flow.", 28 SR1 (in) "Connections for a small-value sense resistor to monitor the battery charge- and discharge-current flow.", 29 VSSA (power) "Negative supply for analog circuitry.", 30 VSSA (power) "Negative supply for analog circuitry.", 31 VDDA (power) "Positive supply for analog circuitry.", 32 FILT (in) "Analog input connected to the external PLL filter.", 33 XCK2/ROSC "32.768-kHz crystal oscillator output pin or connected to a 100-k ohm, 50 ppm or better resistor if the internal oscillator is used.", 34 XCK1/VSSA "32.768-kHz crystal oscillator input pin or connected to VSSA if the internal oscillator is used.", 35 CLKOUT (out) "32.768-kHz output to the bq29312.", 36 NC "No connection.", 37 NC "No connection.", 38 VSSD (power) "Negative supply for digital circuitry."

## BQ2084DBT-V150
designator U?
SBS v1.1 Compliant Gas Gauge with LED Delay, -20 to 85 degC, 38-pin TSSOP (DBT), Green (RoHS & no Sb/Br); PartNumber: BQ2084DBT-V150; Manufacturer: Texas Instruments; Lead Acid: N; Li-Ion: Y; SubFamily: Battery Fuel Gauge; DatasheetVersion: SLUS758; PackageVersion: revI, Mar-2011; PackageReference: DBT38; PackageDescription: 38-Pin Plastic Small Outline 0.5 mm Pitch; Supplier 1: Digi-Key; Supplier Part Number 1: 296-22085-5-ND; Supplier 2: Farnell; Supplier Part Number 2: 1647883; Supplier 3: Newark; Supplier Part Number 3: 50M8820; Supplier 4: Mouser; Supplier Part Number 4: 595-BQ2084DBT-V150; Eco-Plan: Green (RoHS & no Sb/Br); Li-Polymer: Y; NiCd: N; NiMH: N; Over Voltage Protection: N; Mounting Technology: Surface Mount; Code_JEDEC: MO-153; ComponentLink1Description: Datasheet; ComponentLink1URL: http://www.ti.com/general/docs/lit/getliterature.tsp?genericPartNumber=BQ2084-V150&fileType=pdf
footprint DBT38_N (TSSOP, 38-Leads, Body 9.7x4.4mm, Pitch 0.5mm, IPC Medium Density)
footprint DBT38_L (TSSOP, 38-Leads, Body 9.7x4.4mm, Pitch 0.5mm, IPC High Density)
footprint DBT38_M (TSSOP, 38-Leads, Body 9.7x4.4mm, Pitch 0.5mm, IPC Low Density)
pins: 1 VIN (power) "Single-cell voltage input from the bq29312A", 2 TS (in) "Thermistor voltage input connection to monitor temperature", 3 VSSA (power) "Negative supply for analog circuitry", 4 PU (out) "Output to pull up the PRES pin for detection", 5 ~{PRES} (in) "Active low input to sense system insertion", 6 SCLK (out) "Communication clock to the bq29312A", 7 NC "No connection", 8 VDDD (power) "Positive supply for digital circuitry and I/O pins", 9 RBI (power) "Register backup that provides backup potential to the bq2084-V150 data registers during periods of low operating voltage. RBI accepts a storage capacitor or a battery input.", 10 SDATA (io) "Data transfer to and from bq29312A", 11 VSSD (power) "Negative supply for digital circuitry", 12 ~{SAFE} (out) "Active low output for additional level of safety protection; e.g., fuse blow.", 13 NC "No connection", 14 NC "No connection", 15 SMBC (io) "SMBus clock open-drain bidirectional pin used to clock the data transfer to and from the bq2084-V150", 16 SMBD (io) "SMBus clock open-drain bidirectional pin used to transfer address and data to and from the bq2084-V150", 17 ~{DISP} (in) "Display control for the LED drivers LED1 through LED5", 18 ~{PFIN} (in) "Active low input to detect secondary protector output status", 19 VSSD (power) "Negative supply for digital circuitry", 20 LED5 (out) "LED display segments that each may drive an external LED", 21 LED4 (out) "LED display segments that each may drive an external LED", 22 LED3 (out) "LED display segments that each may drive an external LED", 23 LED2 (out) "LED display segments that each may drive an external LED", 24 LED1 (out) "LED display segments that each may drive an external LED", 25 EVENT (in) "Input from bq29312A XALERT output", 26 MRST (in) "Master reset input that forces the device into reset when held high", 27 SR2 (in) "Connections for a small-value sense resistor to monitor the battery charge- and discharge-current flow", 28 SR1 (in) "Connections for a small-value sense resistor to monitor the battery charge- and discharge-current flow", 29 VSSA (power) "Negative supply for analog circuitry", 30 VSSA (power) "Negative supply for analog circuitry", 31 VDDA (power) "Positive supply for analog circuitry", 32 FILT (in) "Analog input connected to the external PLL filter", 33 XCK2/ROSC "32.768-kHz crystal oscillator input pin or connected to a 100-kohm, 50 ppm or better resistor if the internal oscillator is used", 34 XCK1/VSSA "32.768-kHz crystal oscillator input pin or connected to VSSA if the internal oscillator is used", 35 CLKOUT (out) "32.768-kHz output to the bq29312A", 36 NC "No connection", 37 NC "No connection", 38 VSSD (power) "Negative supply for digital circuitry"